# Altium footprint library Fuse.PcbLib: 6 footprints
Each footprint in its own frame and in the unit in brackets; x right, y up, seen from the top. Pads: shape width x height; smd on the part's side, far side on the other; paste and mask are expansions set on the pad; w line width, h text height; cw(c..) or ccw(c..) is an arc to the next point about the centre after c.
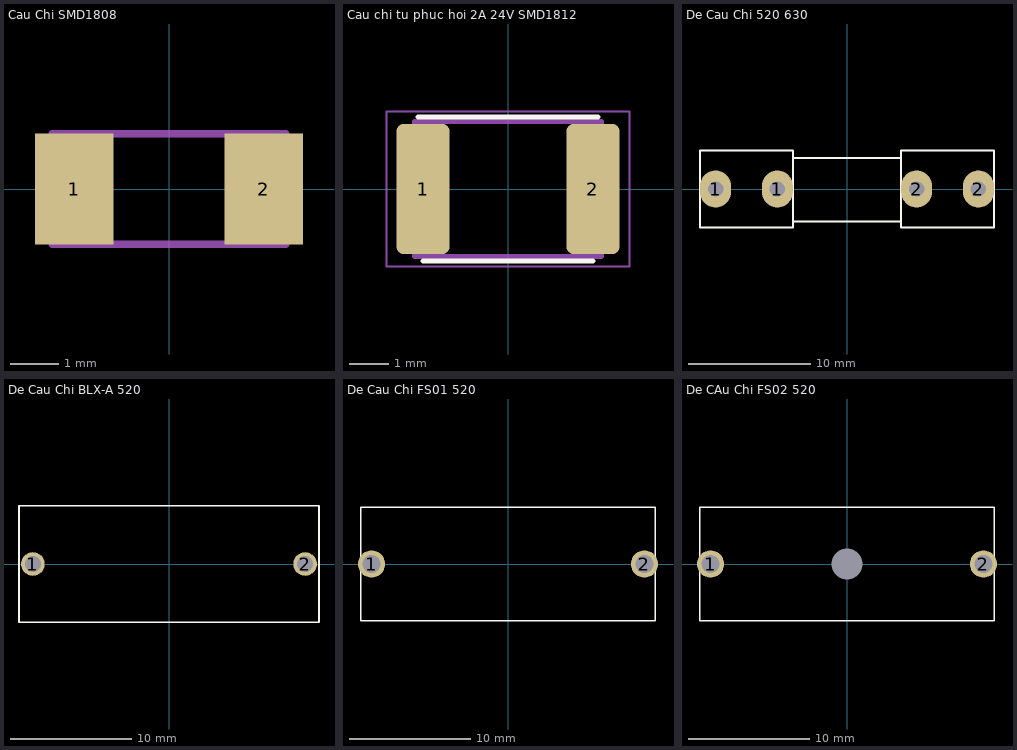
[diagram p0: the footprints below, top view; thin cyan lines are the x and y axes]

## Cau Chi SMD1808 [mil]
pads (2):
  rect 64x90 smd: 1(-77,0) 2(77,0)
Mechanical 13:
  lines w6: -55,-45 -55,45 ; -55,-45 -95,-45 -95,45 -55,45 ; -55,-45 55,-45 ; -55,45 55,45 ; 55,-45 55,45 ; 55,-45 95,-45 95,45 55,45
3D body "User Library-SMD Ceramic Capacitors_1808 (4520)_LF.STEP": height 39.37, standoff 0, extent -90.79,-39.36 90.8,39.38

## Cau chi tu phuc hoi 2A 24V SMD1812 [mm]
pads (2):
  rrect25% 1.34x3.29 smd: 1(-2.15,0) 2(2.15,0)
Top Overlay:
  lines w0.127: -2.28,1.825 2.28,1.825 ; -2.15,-1.825 2.15,-1.825
Mechanical 13:
  lines w0.127: -2.37,-1.71 2.37,-1.71 2.37,1.71 -2.37,1.71 -2.37,-1.71
Mechanical 15:
  lines w0.05: -3.07,-1.96 3.07,-1.96 3.07,1.96 -3.07,1.96 -3.07,-1.96
3D body "step_temp.STEP": height 1.25, standoff 0, extent -2.275,-1.62 2.275,1.62

## De Cau Chi 520 630 [mil] "De Fuse"
pads (4):
  oval 100x120 hole 50: 1(-425,0) 1(-225,0) 2(225,0) 2(425,0)
Top Overlay:
  lines w7: -175,-105 175,-105 ; -175,100 175,100 ; -475,-125 -175,-125 -175,125 -475,125 -475,-125 ; 175,-125 175,125 475,125 475,-125 175,-125
3D body "SW3dPS-Fuse Leg_2009.STEP": height 377.88, standoff -129.94, extent -448,-117 -208,126.71
3D body "SW3dPS-Fuse Small 1A.STEP": height 370.39, standoff 169.61, extent -384.8,-98 390.8,102.79
3D body "SW3dPS-Fuse Leg_2009.STEP": height 377.88, standoff -129.94, extent 219,-116.71 459,127

## De Cau Chi BLX-A 520 [mm] "PCB - Clip Cover - THR"
height 12.6
pads (2):
  round 1.95 hole 1.3: 1(-11.25,0) 2(11.25,0)
Top Overlay:
  lines w0.127: -12.4,-4.8 -12.4,4.8 12.4,4.8 12.4,-4.8 -12.4,-4.8
3D body "696103201002.stp": height 25, standoff -4.1, extent -12.4,-4.8 12.4,4.8

## De Cau Chi FS01 520 [mm] "FUSEHOLDER BLOCKS - PCB - CLIP COVER - THT - WR-FSH"
height 11.5
pads (2):
  round 2.25 hole 1.5: 1(-11.3,0) 2(11.3,0)
Top Overlay:
  lines w0.127: -12.2,-4.7 -12.2,4.7 12.2,4.7 12.2,-4.7 -12.2,-4.7
3D body "696108003002.stp": height 23.72, standoff -3.48, extent -12.2,-4.7 12.2,4.7

## De CAu Chi FS02 520 [mm] "FUSEHOLDER BLOCKS - PCB - CLIP COVER - THT - WR-FSH"
height 11.5
pads (3):
  round 2.25 hole 1.5: 1(-11.3,0) 2(11.3,0)
  round 0 hole 2.6 unplated: ""(0,0)
Top Overlay:
  lines w0.127: -12.2,-4.7 -12.2,4.7 12.2,4.7 12.2,-4.7 -12.2,-4.7
3D body "696107003002.stp": height 23.72, standoff -3.48, extent -12.2,-4.7 12.2,4.7